# Altium footprint library DNK.PcbLib: 1 footprints
Each footprint in its own frame and in the unit in brackets; x right, y up, seen from the top. Pads: shape width x height; smd on the part's side, far side on the other; paste and mask are expansions set on the pad; w line width, h text height; cw(c..) or ccw(c..) is an arc to the next point about the centre after c.
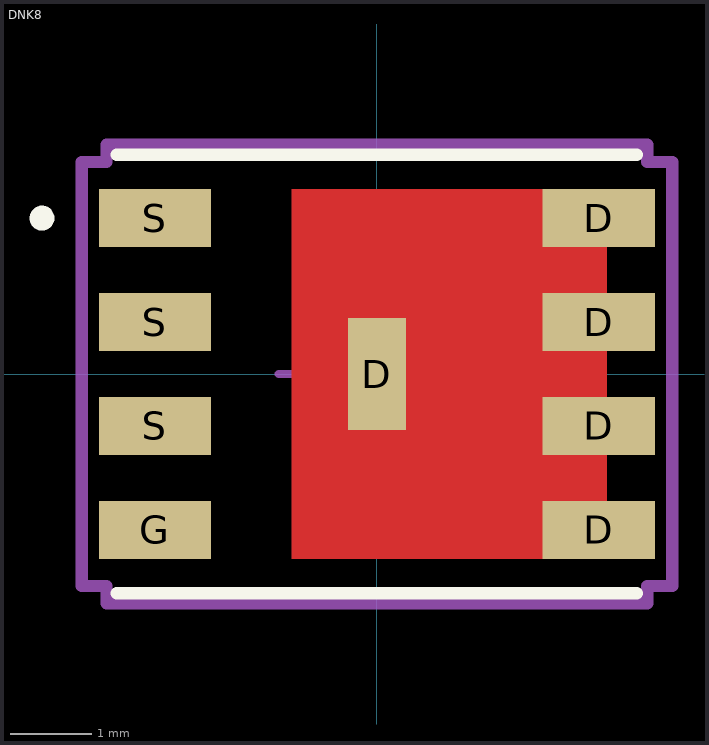
[diagram p0: the footprint, top view; thin cyan lines are the x and y axes]

## DNK8 [mm]
pads (9):
  rect 0.71x1.372 smd paste-0.673: D(0,0)
  rect 1.372x0.71 smd paste-0.673: D(2.712,-1.905) D(2.712,-0.635) D(2.712,0.635) D(2.712,1.905) G(-2.712,-1.905) S(-2.712,-0.635) S(-2.712,0.635) S(-2.712,1.905)
Top Layer:
  region: -1.042,-2.26 -1.042,2.26 2.808,2.26 2.808,-2.26
Top Overlay:
  circle w0.152: c-4.091,1.905 r0.076
  lines w0.152: -3.177,-2.677 3.177,-2.677 ; -3.177,2.677 3.177,2.677
Top Solder:
  region: -2.026,0.99 -3.398,0.99 -3.398,0.28 -2.026,0.28
  region: -2.026,-0.28 -3.398,-0.28 -3.398,-0.99 -2.026,-0.99
  region: -2.026,-1.55 -3.398,-1.55 -3.398,-2.26 -2.026,-2.26
  region: 3.398,-1.55 2.026,-1.55 2.026,-2.26 3.398,-2.26
  region: 3.398,-0.28 2.026,-0.28 2.026,-0.99 3.398,-0.99
  region: 3.398,0.99 2.026,0.99 2.026,0.28 3.398,0.28
  region: 3.398,2.26 2.026,2.26 2.026,1.55 3.398,1.55
  region: -2.026,2.26 -3.398,2.26 -3.398,1.55 -2.026,1.55
  region: 2.765,-2.26 2.765,2.26 -1.085,2.26 -1.085,-2.26
Mechanical 15:
  circle w0.1: c0,0 r0.5
  lines w0.1: -1.2,0 0,0 ; 0,-1.2 0,0 ; 0,1.2 0,0 ; 1.2,0 0,0
  lines w0.152: -3.609,-2.591 -3.609,2.591 -3.304,2.591 -3.304,2.804 3.304,2.804 3.304,2.591 3.609,2.591 3.609,-2.591 3.304,-2.591 3.304,-2.804 -3.304,-2.804 -3.304,-2.591 -3.609,-2.591
3D body "User Library-VSON-8.STEP": height 1, standoff 0, extent -3,-2.5 3.002,2.5